# Altium footprint library CONN FFC FPC 4POS 0.50MM.PcbLib: 1 footprints
Each footprint in its own frame and in the unit in brackets; x right, y up, seen from the top. Pads: shape width x height; smd on the part's side, far side on the other; paste and mask are expansions set on the pad; w line width, h text height; cw(c..) or ccw(c..) is an arc to the next point about the centre after c.
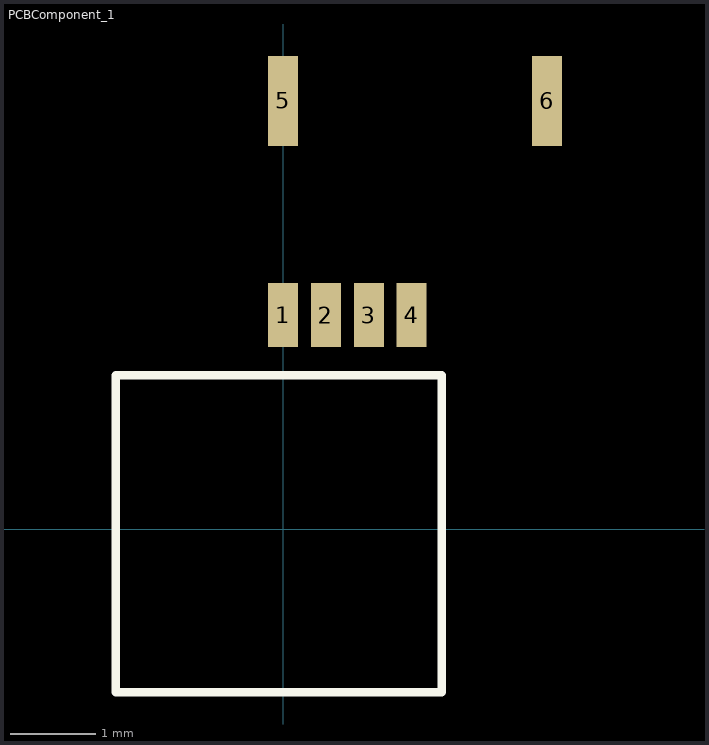
[diagram p0: the footprint, top view; thin cyan lines are the x and y axes]

## PCBComponent_1 [mm]
pads (6):
  rect 0.35x0.75 all layers, no hole: 1(0,2.5) 2(0.5,2.5) 3(1,2.5) 4(1.5,2.5)
  rect 0.35x1.05 all layers, no hole: 5(0,5) 6(3.08,5)
Top Overlay:
  lines w0.1: -1.95,-1.9 -1.95,1.8 1.85,1.8 1.85,-1.9 -1.95,-1.9
3D body "5034800400.stp": height 1.88, standoff -0.02, extent -1.9,-1.85 1.8,1.75